# EAGLE library part TPS22965 (library comma.ai)
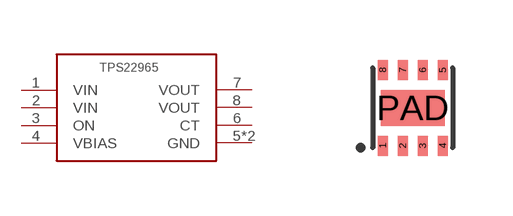
[diagram p30: symbol with the pads of WSON-8-PAD; footprint WSON-8-PAD]

Designator prefix U

## TPS22965WSON8  [WSON-8-PAD]
1  VIN
2  VIN
3  ON
4  VBIAS
5  GND
6  CT
7  VOUT
8  VOUT
PAD  GND

## Footprint WSON-8-PAD (pad centres in mm)
smd 0.25 x 0.5: 1 -0.75,-0.95; 2 -0.25,-0.95; 3 0.25,-0.95; 4 0.75,-0.95; 5 0.75,0.95; 6 0.25,0.95; 7 -0.25,0.95; 8 -0.75,0.95
smd 1.6 x 0.9: PAD 0,0